# Altium footprint library BMP585.PcbLib: 3 footprints
Each footprint in its own frame and in the unit in brackets; x right, y up, seen from the top. Pads: shape width x height; smd on the part's side, far side on the other; paste and mask are expansions set on the pad; w line width, h text height; cw(c..) or ccw(c..) is an arc to the next point about the centre after c.
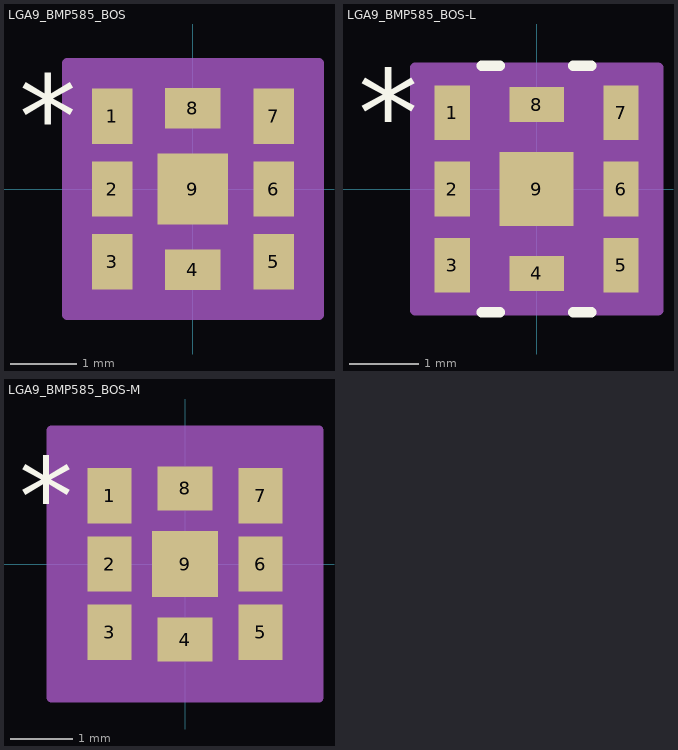
[diagram p0: the footprints below, top view; thin cyan lines are the x and y axes]

## LGA9_BMP585_BOS [mil]
pads (9):
  rect 24x33 smd paste+0 mask+0: 1(-48,43.31) 2(-48,0) 3(-48,-43.31) 5(48,-43.31) 6(48,0) 7(48,43.31)
  rect 33x24 smd paste+0 mask+0: 4(0,-48) 8(0,48)
  rect 42x42 smd paste+0 mask+0: 9(0,0)
Top Overlay:
  text "*" at -103.5,18.31 h50
  text ".Designator" at -137.5,-25 h50
Mechanical 13:
  lines w1: -65,15 -15,65 ; -65,-65 65,-65 65,65 -65,65 -65,-65 ; -65,-59.81 -65,-26.81 -60,-26.81 -60,-59.81 -65,-59.81 ; -65,-16.5 -65,16.5 -60,16.5 -60,-16.5 -65,-16.5 ; -65,26.81 -65,59.81 -60,59.81 -60,26.81 -65,26.81 ; -16.5,-65 16.5,-65 16.5,-60 -16.5,-60 -16.5,-65 ; -16.5,60 16.5,60 16.5,65 -16.5,65 -16.5,60 ; 60,-59.81 65,-59.81 65,-26.81 60,-26.81 60,-59.81 ; 60,-16.5 65,-16.5 65,16.5 60,16.5 60,-16.5 ; 60,26.81 65,26.81 65,59.81 60,59.81 60,26.81
  text ".Designator" at -137.5,-25 h50
  text "*" at -17.5,18.31 h50
Mechanical 15:
  region: -26.5,-75 -75,-75 -75,-69.81 -75,69.81 -75,75 -26.5,75 26.5,75 75,75 75,69.81 75,-69.81 75,-75 26.5,-75
  lines w6: -75,-69.81 -75,-75 -26.5,-75 ; -75,-69.81 -75,-69.81 ; -75,-69.81 -75,69.81 ; -75,69.81 -75,69.81 ; -75,69.81 -75,75 -26.5,75 ; -26.5,-75 26.5,-75 ; -26.5,-75 -26.5,-75 ; -26.5,75 -26.5,75 ; -26.5,75 26.5,75 ; 26.5,-75 75,-75 75,-69.81 ; 26.5,-75 26.5,-75 ; 26.5,75 26.5,75 ; 26.5,75 75,75 75,69.81 ; 75,-69.81 75,69.81 ; 75,-69.81 75,-69.81 ; 75,69.81 75,69.81
3D body "LGA9_BMP585_BOS.step": height 77.09, standoff 0, extent -65,-65 65,65

## LGA9_BMP585_BOS-L [mil]
pads (9):
  rect 20.06x31.03 smd paste+0 mask+0: 1(-48,43.31) 2(-48,0) 3(-48,-43.31) 5(48,-43.31) 6(48,0) 7(48,43.31)
  rect 31.03x20.06 smd paste+0 mask+0: 4(0,-48) 8(0,48)
  rect 42x42 smd paste+0 mask+0: 9(0,0)
Top Overlay:
  lines w6: -31.14,-70 -20.84,-70 ; -31.14,70 -20.84,70 ; 20.84,-70 31.14,-70 ; 20.84,70 31.14,70
  text "*" at -101.53,18.31 h50
  text ".Designator" at -137.5,-25 h50
Mechanical 13:
  lines w1: -65,15 -15,65 ; -65,-65 65,-65 65,65 -65,65 -65,-65 ; -65,-59.81 -65,-26.81 -60,-26.81 -60,-59.81 -65,-59.81 ; -65,-16.5 -65,16.5 -60,16.5 -60,-16.5 -65,-16.5 ; -65,26.81 -65,59.81 -60,59.81 -60,26.81 -65,26.81 ; -16.5,-65 16.5,-65 16.5,-60 -16.5,-60 -16.5,-65 ; -16.5,60 16.5,60 16.5,65 -16.5,65 -16.5,60 ; 60,-59.81 65,-59.81 65,-26.81 60,-26.81 60,-59.81 ; 60,-16.5 65,-16.5 65,16.5 60,16.5 60,-16.5 ; 60,26.81 65,26.81 65,59.81 60,59.81 60,26.81
  text ".Designator" at -137.5,-25 h50
  text "*" at -19.47,18.31 h50
Mechanical 15:
  region: -19.52,-69 -69,-69 -69,-62.82 -69,62.82 -69,69 -19.52,69 19.52,69 69,69 69,62.82 69,-62.82 69,-69 19.52,-69
  lines w6: -69,-62.82 -69,-69 -19.52,-69 ; -69,-62.82 -69,-62.82 ; -69,-62.82 -69,62.82 ; -69,62.82 -69,62.82 ; -69,62.82 -69,69 -19.52,69 ; -19.52,-69 19.52,-69 ; -19.52,-69 -19.52,-69 ; -19.52,69 -19.52,69 ; -19.52,69 19.52,69 ; 19.52,-69 69,-69 69,-62.82 ; 19.52,-69 19.52,-69 ; 19.52,69 19.52,69 ; 19.52,69 69,69 69,62.82 ; 69,-62.82 69,62.82 ; 69,-62.82 69,-62.82 ; 69,62.82 69,62.82
3D body "LGA9_BMP585_BOS.step": height 77.09, standoff 0, extent -65,-65 65,65

## LGA9_BMP585_BOS-M [mil]
pads (9):
  rect 27.94x34.97 smd paste+0 mask+0: 1(-48,43.31) 2(-48,0) 3(-48,-43.31) 5(48,-43.31) 6(48,0) 7(48,43.31)
  rect 34.97x27.94 smd paste+0 mask+0: 4(0,-48) 8(0,48)
  rect 42x42 smd paste+0 mask+0: 9(0,0)
Top Overlay:
  text "*" at -105.47,18.31 h50
  text ".Designator" at -137.5,-25 h50
Mechanical 13:
  lines w1: -65,15 -15,65 ; -65,-65 65,-65 65,65 -65,65 -65,-65 ; -65,-59.81 -65,-26.81 -60,-26.81 -60,-59.81 -65,-59.81 ; -65,-16.5 -65,16.5 -60,16.5 -60,-16.5 -65,-16.5 ; -65,26.81 -65,59.81 -60,59.81 -60,26.81 -65,26.81 ; -16.5,-65 16.5,-65 16.5,-60 -16.5,-60 -16.5,-65 ; -16.5,60 16.5,60 16.5,65 -16.5,65 -16.5,60 ; 60,-59.81 65,-59.81 65,-26.81 60,-26.81 60,-59.81 ; 60,-16.5 65,-16.5 65,16.5 60,16.5 60,-16.5 ; 60,26.81 65,26.81 65,59.81 60,59.81 60,26.81
  text ".Designator" at -137.5,-25 h50
  text "*" at -15.53,18.31 h50
Mechanical 15:
  region: -37.48,-85 -85,-85 -85,-80.79 -85,80.79 -85,85 -37.48,85 37.48,85 85,85 85,80.79 85,-80.79 85,-85 37.48,-85
  lines w6: -85,-80.79 -85,-85 -37.48,-85 ; -85,-80.79 -85,-80.79 ; -85,-80.79 -85,80.79 ; -85,80.79 -85,80.79 ; -85,80.79 -85,85 -37.48,85 ; -37.48,-85 37.48,-85 ; -37.48,-85 -37.48,-85 ; -37.48,85 -37.48,85 ; -37.48,85 37.48,85 ; 37.48,-85 85,-85 85,-80.79 ; 37.48,-85 37.48,-85 ; 37.48,85 37.48,85 ; 37.48,85 85,85 85,80.79 ; 85,-80.79 85,80.79 ; 85,-80.79 85,-80.79 ; 85,80.79 85,80.79
3D body "LGA9_BMP585_BOS.step": height 77.09, standoff 0, extent -65,-65 65,65